# Altium schematic symbol library YL-LPC1788_V1.2_Library.SchLib: 65 symbols
Pins are listed as number, name and electrical type; pins without a type are passive.

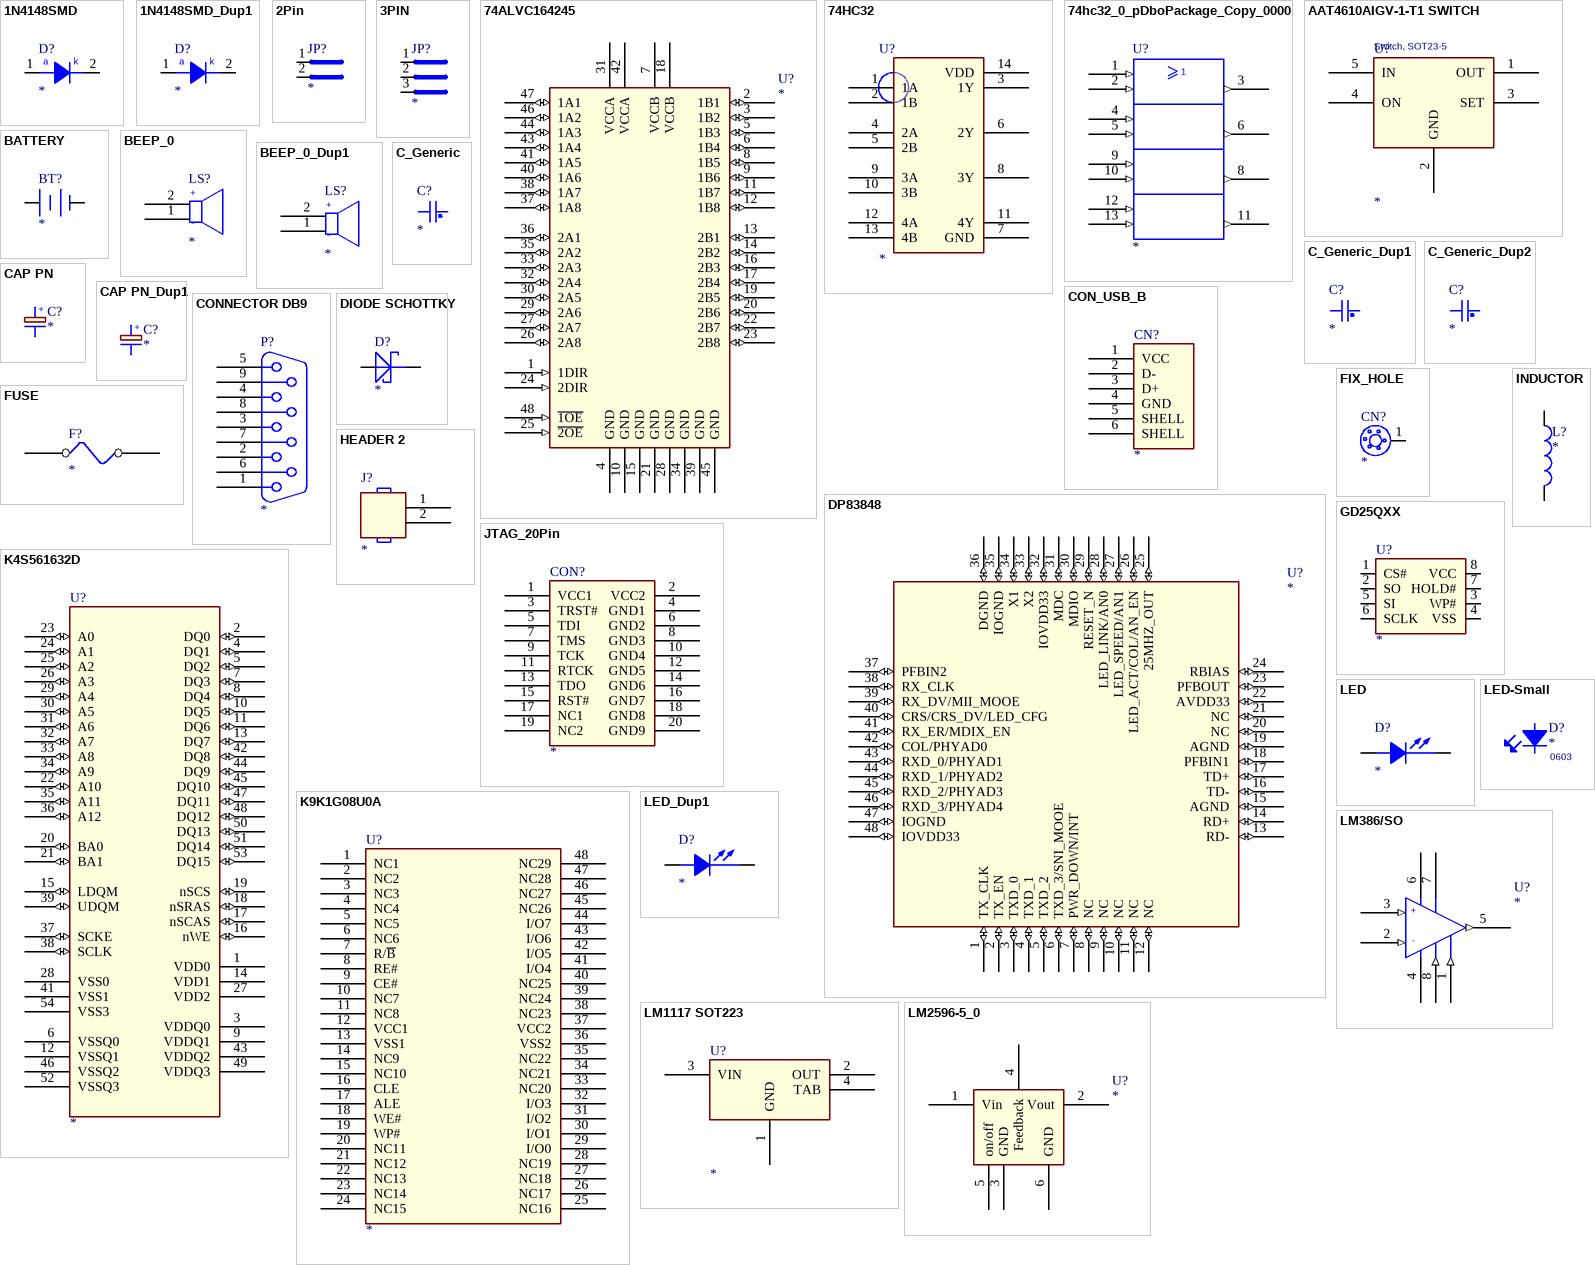
[diagram p0: symbols 1N4148SMD to LM2596-5_0]

## 1N4148SMD
designator D?
pins: 1 ANODE, 2 CATHODE
text: a; k

## 1N4148SMD_Dup1
designator D?
pins: 1 ANODE, 2 CATHODE
text: a; k

## 2Pin
designator JP?
pins: 1, 2

## 3PIN
designator JP?
pins: 1, 2, 3

## 74ALVC164245
designator U?
pins: 1 1DIR (in), 2 1B1 (io), 3 1B2 (io), 4 GND (power), 5 1B3 (io), 6 1B4 (io), 7 VCCB (power), 8 1B5 (io), 9 1B6 (io), 10 GND (power), 11 1B7 (io), 12 1B8 (io), 13 2B1 (io), 14 2B2 (io), 15 GND (power), 16 2B3 (io), 17 2B4 (io), 18 VCCB (power), 19 2B5 (io), 20 2B6 (io), 21 GND (power), 22 2B7 (io), 23 2B8 (io), 24 2DIR (in), 25 ~{2OE} (in), 26 2A8 (io), 27 2A7 (io), 28 GND (power), 29 2A6 (io), 30 2A5 (io), 31 VCCA (power), 32 2A4 (io), 33 2A3 (io), 34 GND (power), 35 2A2 (io), 36 2A1 (io), 37 1A8 (io), 38 1A7 (io), 39 GND (power), 40 1A6 (io), 41 1A5 (io), 42 VCCA (power), 43 1A4 (io), 44 1A3 (io), 45 GND (power), 46 1A2 (io), 47 1A1 (io), 48 ~{1OE} (in)

## 74HC32
designator U?
pins: 1 1A, 2 1B, 3 1Y, 4 2A, 5 2B, 6 2Y, 7 GND, 8 3Y, 9 3A, 10 3B, 11 4Y, 12 4A, 13 4B, 14 VDD

## 74hc32_0_pDboPackage_Copy_0000
designator U?
pins: 1 1A (in), 2 1B (in), 3 1Y (out), 4 2A (in), 5 2B (in), 6 2Y (out), 7 GND (power) hidden to GND, 8 3Y (out), 9 3A (in), 10 3B (in), 11 4Y (out), 12 4A (in), 13 4B (in), 14 VCC (power) hidden to VCC

## AAT4610AIGV-1-T1 SWITCH
designator U?  Note: Switch, SOT23-5
pins: 1 OUT, 2 GND, 3 SET, 4 ON, 5 IN

## BATTERY
designator BT?
pins: 1 +, 2 -

## BEEP_0
designator LS?
pins: 1, 2
text: +; -

## BEEP_0_Dup1
designator LS?
pins: 1, 2
text: +; -

## C_Generic
designator C?
footprint CAP0805
pins: 1, 2

## C_Generic_Dup1
designator C?
footprint CAP0805
pins: 1, 2

## C_Generic_Dup2
designator C?
footprint CAP0805
pins: 1, 2

## CAP PN
designator C?
SDTSourceLibName: C:\WINDOWS\TEMP\SNDS.LIB
pins: 1, 2
text: +

## CAP PN_Dup1
designator C?
SDTSourceLibName: C:\WINDOWS\TEMP\SNDS.LIB
pins: 1, 2
text: +

## CON_USB_B
designator CN?
pins: 1 VCC, 2 D-, 3 D+, 4 GND, 5 SHELL, 6 SHELL

## CONNECTOR DB9
designator P?
pins: 1, 2, 3, 4, 5, 6, 7, 8, 9

## DIODE SCHOTTKY
designator D?
pins: 1, 2

## DP83848
designator U?
pins: 1 TX_CLK (io), 2 TX_EN (io), 3 TXD_0 (io), 4 TXD_1 (io), 5 TXD_2 (io), 6 TXD_3/SNI_MOOE (io), 7 PWR_DOWN/INT (io), 8 NC (io), 9 NC (io), 10 NC (io), 11 NC (io), 12 NC (io), 13 RD- (io), 14 RD+ (io), 15 AGND (io), 16 TD- (io), 17 TD+ (io), 18 PFBIN1 (io), 19 AGND (io), 20 NC (io), 21 NC (io), 22 AVDD33 (io), 23 PFBOUT (io), 24 RBIAS (io), 25 25MHZ_OUT (io), 26 LED_ACT/COL/AN_EN (io), 27 LED_SPEED/AN1 (io), 28 LED_LINK/AN0 (io), 29 RESET_N (io), 30 MDIO (io), 31 MDC (io), 32 IOVDD33 (io), 33 X2 (io), 34 X1 (io), 35 IOGND (io), 36 DGND (io), 37 PFBIN2 (io), 38 RX_CLK (io), 39 RX_DV/MII_MOOE (io), 40 CRS/CRS_DV/LED_CFG (io), 41 RX_ER/MDIX_EN (io), 42 COL/PHYAD0 (io), 43 RXD_0/PHYAD1 (io), 44 RXD_1/PHYAD2 (io), 45 RXD_2/PHYAD3 (io), 46 RXD_3/PHYAD4 (io), 47 IOGND (io), 48 IOVDD33 (io)

## FIX_HOLE
designator CN?
pins: 1

## FUSE
designator F?
pins: 1, 2

## GD25QXX
designator U?
footprint SOP
pins: 1 CS#, 2 SO, 3 WP#, 4 VSS, 5 SI, 6 SCLK, 7 HOLD#, 8 VCC

## HEADER 2
designator J?
pins: 1, 2

## INDUCTOR
designator L?
SDTSourceLibName: C:\WINDOWS\TEMP\SNDS.LIB
pins: 1, 2

## JTAG_20Pin
designator CON?
pins: 1 VCC1, 2 VCC2, 3 TRST#, 4 GND1, 5 TDI, 6 GND2, 7 TMS, 8 GND3, 9 TCK, 10 GND4, 11 RTCK, 12 GND5, 13 TDO, 14 GND6, 15 RST#, 16 GND7, 17 NC1, 18 GND8, 19 NC2, 20 GND9

## K4S561632D
designator U?
pins: 1 VDD0, 2 DQ0 (io), 3 VDDQ0, 4 DQ1 (io), 5 DQ2 (io), 6 VSSQ0, 7 DQ3 (io), 8 DQ4 (io), 9 VDDQ1, 10 DQ5 (io), 11 DQ6 (io), 12 VSSQ1, 13 DQ7 (io), 14 VDD1, 15 LDQM (io), 16 nWE (io), 17 nSCAS (io), 18 nSRAS (io), 19 nSCS (io), 20 BA0 (io), 21 BA1 (io), 22 A10 (io), 23 A0 (io), 24 A1 (io), 25 A2 (io), 26 A3 (io), 27 VDD2, 28 VSS0, 29 A4 (io), 30 A5 (io), 31 A6 (io), 32 A7 (io), 33 A8 (io), 34 A9 (io), 35 A11 (io), 36 A12 (io), 37 SCKE (io), 38 SCLK (io), 39 UDQM (io), 41 VSS1, 42 DQ8 (io), 43 VDDQ2, 44 DQ9 (io), 45 DQ10 (io), 46 VSSQ2, 47 DQ11 (io), 48 DQ12 (io), 49 VDDQ3, 50 DQ13 (io), 51 DQ14 (io), 52 VSSQ3, 53 DQ15 (io), 54 VSS3

## K9K1G08U0A
designator U?
footprint TSOP1
pins: 1 NC1, 2 NC2, 3 NC3, 4 NC4, 5 NC5, 6 NC6, 7 R/~{B}, 8 RE#, 9 CE#, 10 NC7, 11 NC8, 12 VCC1, 13 VSS1, 14 NC9, 15 NC10, 16 CLE, 17 ALE, 18 WE#, 19 WP#, 20 NC11, 21 NC12, 22 NC13, 23 NC14, 24 NC15, 25 NC16, 26 NC17, 27 NC18, 28 NC19, 29 I/O0, 30 I/O1, 31 I/O2, 32 I/O3, 33 NC20, 34 NC21, 35 NC22, 36 VSS2, 37 VCC2, 38 NC23, 39 NC24, 40 NC25, 41 I/O4, 42 I/O5, 43 I/O6, 44 I/O7, 45 NC26, 46 NC27, 47 NC28, 48 NC29

## LED
designator D?
pins: 1 ANODE, 2 CATHODE

## LED-Small
designator D?  Note: 0603
pins: 1 A, 2 K

## LED_Dup1
designator D?
pins: 1 ANODE, 2 CATHODE

## LM386/SO
designator U?
pins: 1 GAIN (in), 2 IN- (in), 3 IN+ (in), 4 GND (power), 5 OUT (out), 6 V+ (power), 7 BYPASS, 8 GAIN (in)
text: +; -

## LM1117 SOT223
designator U?
footprint XP-SOT223-3
pins: 1 GND, 2 OUT, 3 VIN, 4 TAB

## LM2596-5_0
designator U?
pins: 1 Vin, 2 Vout, 3 GND, 4 Feedback, 5 on/off, 6 GND

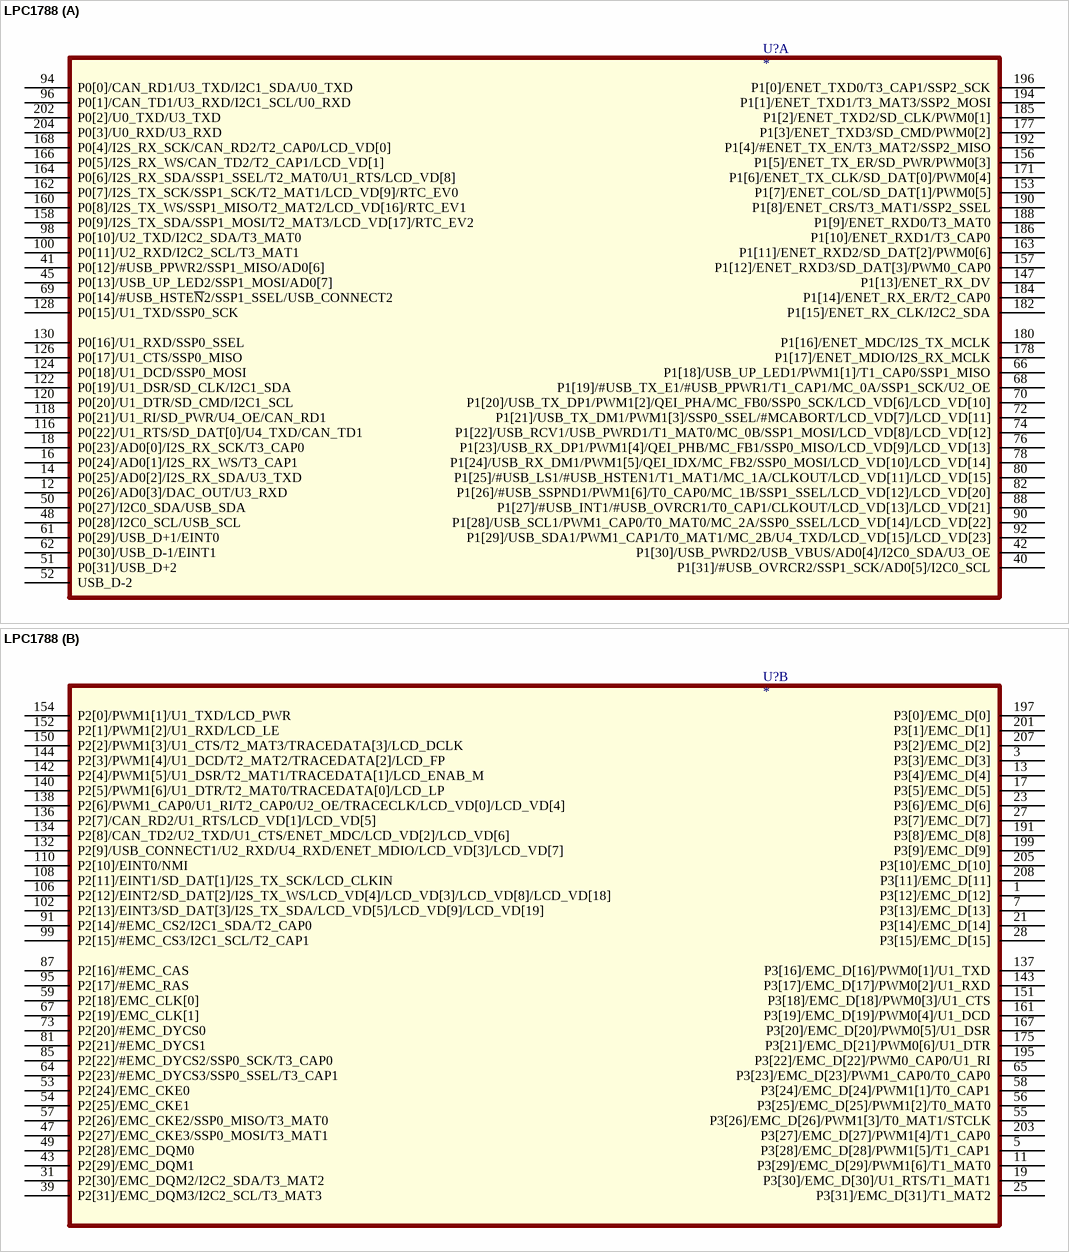
[diagram p1: symbol LPC1788]

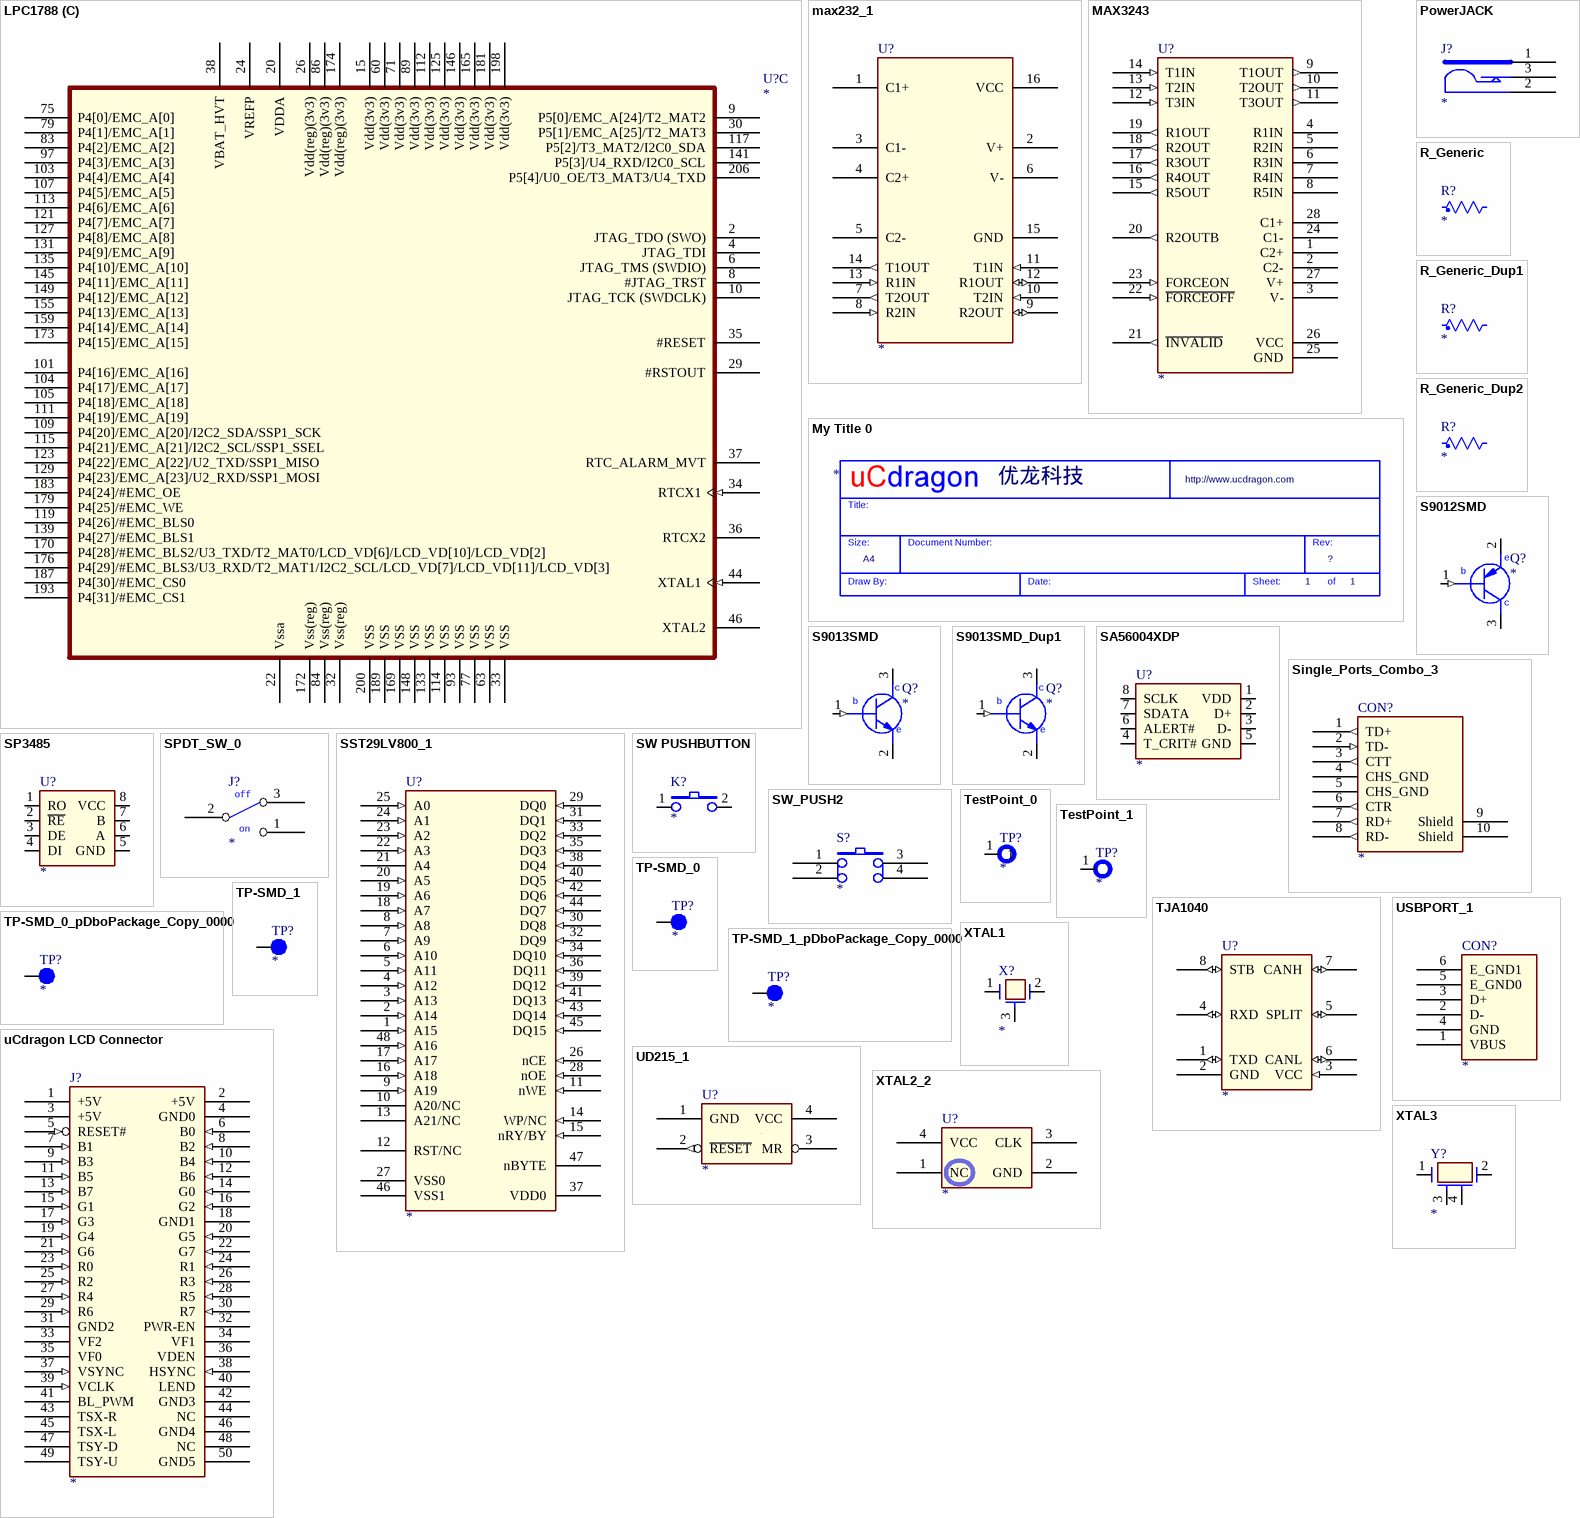
[diagram p2: symbols LPC1788 to XTAL3]

## LPC1788
designator U?
part A pins: 12 P0[26]/AD0[3]/DAC_OUT/U3_RXD, 14 P0[25]/AD0[2]/I2S_RX_SDA/U3_TXD, 16 P0[24]/AD0[1]/I2S_RX_WS/T3_CAP1, 18 P0[23]/AD0[0]/I2S_RX_SCK/T3_CAP0, 40 P1[31]/#USB_OVRCR2/SSP1_SCK/AD0[5]/I2C0_SCL, 41 P0[12]/#USB_PPWR2/SSP1_MISO/AD0[6], 42 P1[30]/USB_PWRD2/USB_VBUS/AD0[4]/I2C0_SDA/U3_OE, 45 P0[13]/USB_UP_LED2/SSP1_MOSI/AD0[7], 48 P0[28]/I2C0_SCL/USB_SCL, 50 P0[27]/I2C0_SDA/USB_SDA, 51 P0[31]/USB_D+2, 52 USB_D-2, 61 P0[29]/USB_D+1/EINT0, 62 P0[30]/USB_D-1/EINT1, 66 P1[18]/USB_UP_LED1/PWM1[1]/T1_CAP0/SSP1_MISO, 68 P1[19]/#USB_TX_E1/#USB_PPWR1/T1_CAP1/MC_0A/SSP1_SCK/U2_OE, 69 P0[14]/#USB_HSTE~{N}2/SSP1_SSEL/USB_CONNECT2, 70 P1[20]/USB_TX_DP1/PWM1[2]/QEI_PHA/MC_FB0/SSP0_SCK/LCD_VD[6]/LCD_VD[10], 72 P1[21]/USB_TX_DM1/PWM1[3]/SSP0_SSEL/#MCABORT/LCD_VD[7]/LCD_VD[11], 74 P1[22]/USB_RCV1/USB_PWRD1/T1_MAT0/MC_0B/SSP1_MOSI/LCD_VD[8]/LCD_VD[12], 76 P1[23]/USB_RX_DP1/PWM1[4]/QEI_PHB/MC_FB1/SSP0_MISO/LCD_VD[9]/LCD_VD[13], 78 P1[24]/USB_RX_DM1/PWM1[5]/QEI_IDX/MC_FB2/SSP0_MOSI/LCD_VD[10]/LCD_VD[14], 80 P1[25]/#USB_LS1/#USB_HSTEN1/T1_MAT1/MC_1A/CLKOUT/LCD_VD[11]/LCD_VD[15], 82 P1[26]/#USB_SSPND1/PWM1[6]/T0_CAP0/MC_1B/SSP1_SSEL/LCD_VD[12]/LCD_VD[20], 88 P1[27]/#USB_INT1/#USB_OVRCR1/T0_CAP1/CLKOUT/LCD_VD[13]/LCD_VD[21], 90 P1[28]/USB_SCL1/PWM1_CAP0/T0_MAT0/MC_2A/SSP0_SSEL/LCD_VD[14]/LCD_VD[22], 92 P1[29]/USB_SDA1/PWM1_CAP1/T0_MAT1/MC_2B/U4_TXD/LCD_VD[15]/LCD_VD[23], 94 P0[0]/CAN_RD1/U3_TXD/I2C1_SDA/U0_TXD, 96 P0[1]/CAN_TD1/U3_RXD/I2C1_SCL/U0_RXD, 98 P0[10]/U2_TXD/I2C2_SDA/T3_MAT0, 100 P0[11]/U2_RXD/I2C2_SCL/T3_MAT1, 116 P0[22]/U1_RTS/SD_DAT[0]/U4_TXD/CAN_TD1, 118 P0[21]/U1_RI/SD_PWR/U4_OE/CAN_RD1, 120 P0[20]/U1_DTR/SD_CMD/I2C1_SCL, 122 P0[19]/U1_DSR/SD_CLK/I2C1_SDA, 124 P0[18]/U1_DCD/SSP0_MOSI, 126 P0[17]/U1_CTS/SSP0_MISO, 128 P0[15]/U1_TXD/SSP0_SCK, 130 P0[16]/U1_RXD/SSP0_SSEL, 147 P1[13]/ENET_RX_DV, 153 P1[7]/ENET_COL/SD_DAT[1]/PWM0[5], 156 P1[5]/ENET_TX_ER/SD_PWR/PWM0[3], 157 P1[12]/ENET_RXD3/SD_DAT[3]/PWM0_CAP0, 158 P0[9]/I2S_TX_SDA/SSP1_MOSI/T2_MAT3/LCD_VD[17]/RTC_EV2, 160 P0[8]/I2S_TX_WS/SSP1_MISO/T2_MAT2/LCD_VD[16]/RTC_EV1, 162 P0[7]/I2S_TX_SCK/SSP1_SCK/T2_MAT1/LCD_VD[9]/RTC_EV0, 163 P1[11]/ENET_RXD2/SD_DAT[2]/PWM0[6], 164 P0[6]/I2S_RX_SDA/SSP1_SSEL/T2_MAT0/U1_RTS/LCD_VD[8], 166 P0[5]/I2S_RX_WS/CAN_TD2/T2_CAP1/LCD_VD[1], 168 P0[4]/I2S_RX_SCK/CAN_RD2/T2_CAP0/LCD_VD[0], 171 P1[6]/ENET_TX_CLK/SD_DAT[0]/PWM0[4], 177 P1[3]/ENET_TXD3/SD_CMD/PWM0[2], 178 P1[17]/ENET_MDIO/I2S_RX_MCLK, 180 P1[16]/ENET_MDC/I2S_TX_MCLK, 182 P1[15]/ENET_RX_CLK/I2C2_SDA, 184 P1[14]/ENET_RX_ER/T2_CAP0, 185 P1[2]/ENET_TXD2/SD_CLK/PWM0[1], 186 P1[10]/ENET_RXD1/T3_CAP0, 188 P1[9]/ENET_RXD0/T3_MAT0, 190 P1[8]/ENET_CRS/T3_MAT1/SSP2_SSEL, 192 P1[4]/#ENET_TX_EN/T3_MAT2/SSP2_MISO, 194 P1[1]/ENET_TXD1/T3_MAT3/SSP2_MOSI, 196 P1[0]/ENET_TXD0/T3_CAP1/SSP2_SCK, 202 P0[2]/U0_TXD/U3_TXD, 204 P0[3]/U0_RXD/U3_RXD
part B pins: 1 P3[12]/EMC_D[12], 3 P3[3]/EMC_D[3], 5 P3[28]/EMC_D[28]/PWM1[5]/T1_CAP1, 7 P3[13]/EMC_D[13], 11 P3[29]/EMC_D[29]/PWM1[6]/T1_MAT0, 13 P3[4]/EMC_D[4], 17 P3[5]/EMC_D[5], 19 P3[30]/EMC_D[30]/U1_RTS/T1_MAT1, 21 P3[14]/EMC_D[14], 23 P3[6]/EMC_D[6], 25 P3[31]/EMC_D[31]/T1_MAT2, 27 P3[7]/EMC_D[7], 28 P3[15]/EMC_D[15], 31 P2[30]/EMC_DQM2/I2C2_SDA/T3_MAT2, 39 P2[31]/EMC_DQM3/I2C2_SCL/T3_MAT3, 43 P2[29]/EMC_DQM1, 47 P2[27]/EMC_CKE3/SSP0_MOSI/T3_MAT1, 49 P2[28]/EMC_DQM0, 53 P2[24]/EMC_CKE0, 54 P2[25]/EMC_CKE1, 55 P3[26]/EMC_D[26]/PWM1[3]/T0_MAT1/STCLK, 56 P3[25]/EMC_D[25]/PWM1[2]/T0_MAT0, 57 P2[26]/EMC_CKE2/SSP0_MISO/T3_MAT0, 58 P3[24]/EMC_D[24]/PWM1[1]/T0_CAP1, 59 P2[18]/EMC_CLK[0], 64 P2[23]/#EMC_DYCS3/SSP0_SSEL/T3_CAP1, 65 P3[23]/EMC_D[23]/PWM1_CAP0/T0_CAP0, 67 P2[19]/EMC_CLK[1], 73 P2[20]/#EMC_DYCS0, 81 P2[21]/#EMC_DYCS1, 85 P2[22]/#EMC_DYCS2/SSP0_SCK/T3_CAP0, 87 P2[16]/#EMC_CAS, 91 P2[14]/#EMC_CS2/I2C1_SDA/T2_CAP0, 95 P2[17]/#EMC_RAS, 99 P2[15]/#EMC_CS3/I2C1_SCL/T2_CAP1, 102 P2[13]/EINT3/SD_DAT[3]/I2S_TX_SDA/LCD_VD[5]/LCD_VD[9]/LCD_VD[19], 106 P2[12]/EINT2/SD_DAT[2]/I2S_TX_WS/LCD_VD[4]/LCD_VD[3]/LCD_VD[8]/LCD_VD[18], 108 P2[11]/EINT1/SD_DAT[1]/I2S_TX_SCK/LCD_CLKIN, 110 P2[10]/EINT0/NMI, 132 P2[9]/USB_CONNECT1/U2_RXD/U4_RXD/ENET_MDIO/LCD_VD[3]/LCD_VD[7], 134 P2[8]/CAN_TD2/U2_TXD/U1_CTS/ENET_MDC/LCD_VD[2]/LCD_VD[6], 136 P2[7]/CAN_RD2/U1_RTS/LCD_VD[1]/LCD_VD[5], 137 P3[16]/EMC_D[16]/PWM0[1]/U1_TXD, 138 P2[6]/PWM1_CAP0/U1_RI/T2_CAP0/U2_OE/TRACECLK/LCD_VD[0]/LCD_VD[4], 140 P2[5]/PWM1[6]/U1_DTR/T2_MAT0/TRACEDATA[0]/LCD_LP, 142 P2[4]/PWM1[5]/U1_DSR/T2_MAT1/TRACEDATA[1]/LCD_ENAB_M, 143 P3[17]/EMC_D[17]/PWM0[2]/U1_RXD, 144 P2[3]/PWM1[4]/U1_DCD/T2_MAT2/TRACEDATA[2]/LCD_FP, 150 P2[2]/PWM1[3]/U1_CTS/T2_MAT3/TRACEDATA[3]/LCD_DCLK, 151 P3[18]/EMC_D[18]/PWM0[3]/U1_CTS, 152 P2[1]/PWM1[2]/U1_RXD/LCD_LE, 154 P2[0]/PWM1[1]/U1_TXD/LCD_PWR, 161 P3[19]/EMC_D[19]/PWM0[4]/U1_DCD, 167 P3[20]/EMC_D[20]/PWM0[5]/U1_DSR, 175 P3[21]/EMC_D[21]/PWM0[6]/U1_DTR, 191 P3[8]/EMC_D[8], 195 P3[22]/EMC_D[22]/PWM0_CAP0/U1_RI, 197 P3[0]/EMC_D[0], 199 P3[9]/EMC_D[9], 201 P3[1]/EMC_D[1], 203 P3[27]/EMC_D[27]/PWM1[4]/T1_CAP0, 205 P3[10]/EMC_D[10], 207 P3[2]/EMC_D[2], 208 P3[11]/EMC_D[11]
part C pins: 2 JTAG_TDO (SWO), 4 JTAG_TDI, 6 JTAG_TMS (SWDIO), 8 #JTAG_TRST, 9 P5[0]/EMC_A[24]/T2_MAT2, 10 JTAG_TCK (SWDCLK), 15 Vdd(3v3), 20 VDDA, 22 Vssa, 24 VREFP, 26 Vdd(reg)(3v3), 29 #RSTOUT, 30 P5[1]/EMC_A[25]/T2_MAT3, 32 Vss(reg), 33 VSS, 34 RTCX1 (in), 35 #RESET, 36 RTCX2, 37 RTC_ALARM_MVT, 38 VBAT_HVT, 44 XTAL1 (in), 46 XTAL2, 60 Vdd(3v3), 63 VSS, 71 Vdd(3v3), 75 P4[0]/EMC_A[0], 77 VSS, 79 P4[1]/EMC_A[1], 83 P4[2]/EMC_A[2], 84 Vss(reg), 86 Vdd(reg)(3v3), 89 Vdd(3v3), 93 VSS, 97 P4[3]/EMC_A[3], 101 P4[16]/EMC_A[16], 103 P4[4]/EMC_A[4], 104 P4[17]/EMC_A[17], 105 P4[18]/EMC_A[18], 107 P4[5]/EMC_A[5], 109 P4[20]/EMC_A[20]/I2C2_SDA/SSP1_SCK, 111 P4[19]/EMC_A[19], 112 Vdd(3v3), 113 P4[6]/EMC_A[6], 114 VSS, 115 P4[21]/EMC_A[21]/I2C2_SCL/SSP1_SSEL, 117 P5[2]/T3_MAT2/I2C0_SDA, 119 P4[26]/#EMC_BLS0, 121 P4[7]/EMC_A[7], 123 P4[22]/EMC_A[22]/U2_TXD/SSP1_MISO, 125 Vdd(3v3), 127 P4[8]/EMC_A[8], 129 P4[23]/EMC_A[23]/U2_RXD/SSP1_MOSI, 131 P4[9]/EMC_A[9], 133 VSS, 135 P4[10]/EMC_A[10], 139 P4[27]/#EMC_BLS1, 141 P5[3]/U4_RXD/I2C0_SCL, 145 P4[11]/EMC_A[11], 146 Vdd(3v3), 148 VSS, 149 P4[12]/EMC_A[12], 155 P4[13]/EMC_A[13], 159 P4[14]/EMC_A[14], 165 Vdd(3v3), 169 VSS, 170 P4[28]/#EMC_BLS2/U3_TXD/T2_MAT0/LCD_VD[6]/LCD_VD[10]/LCD_VD[2], 172 Vss(reg), 173 P4[15]/EMC_A[15], 174 Vdd(reg)(3v3), 176 P4[29]/#EMC_BLS3/U3_RXD/T2_MAT1/I2C2_SCL/LCD_VD[7]/LCD_VD[11]/LCD_VD[3], 179 P4[25]/#EMC_WE, 181 Vdd(3v3), 183 P4[24]/#EMC_OE, 187 P4[30]/#EMC_CS0, 189 VSS, 193 P4[31]/#EMC_CS1, 198 Vdd(3v3), 200 VSS, 206 P5[4]/U0_OE/T3_MAT3/U4_TXD

## max232_1
designator U?
pins: 1 C1+, 2 V+, 3 C1-, 4 C2+, 5 C2-, 6 V-, 7 T2OUT (out), 8 R2IN (in), 9 R2OUT (io), 10 T2IN (in), 11 T1IN (in), 12 R1OUT (io), 13 R1IN (in), 14 T1OUT (out), 15 GND (power), 16 VCC (power)

## MAX3243
designator U?
pins: 1 C2+, 2 C2-, 3 V-, 4 R1IN, 5 R2IN, 6 R3IN, 7 R4IN, 8 R5IN, 9 T1OUT (out), 10 T2OUT (out), 11 T3OUT (out), 12 T3IN (in), 13 T2IN (in), 14 T1IN (in), 15 R5OUT (out), 16 R4OUT (out), 17 R3OUT (out), 18 R2OUT (out), 19 R1OUT (out), 20 R2OUTB (out), 21 ~{INVALID} (out), 22 ~{FORCEOFF} (in), 23 FORCEON (in), 24 C1-, 25 GND, 26 VCC, 27 V+, 28 C1+

## My Title 0
designator *  Page Count: 1  Page Size: A4  Company: 优龙科技  (graphical)
Page Number: 1; RevCode: ?; Page Create Date: May 29, 2006; WebSite: http://www.ucdragon.com
text: Title:; Size:; Document Number:; Rev:; Draw By:; Date:; Sheet:; of

## PowerJACK
designator J?
pins: 1, 2, 3

## R_Generic
designator R?
pins: 1, 2

## R_Generic_Dup1
designator R?
pins: 1, 2

## R_Generic_Dup2
designator R?
pins: 1, 2

## S9012SMD
designator Q?
pins: 1 B (in), 2 e, 3 c
text: b

## S9013SMD
designator Q?
pins: 1 B (in), 2 E, 3 C
text: c; b; e

## S9013SMD_Dup1
designator Q?
pins: 1 B (in), 2 E, 3 C
text: c; b; e

## SA56004XDP
designator U?
footprint TSSOP8
pins: 1 VDD, 2 D+, 3 D-, 4 T_CRIT#, 5 GND, 6 ALERT#, 7 SDATA, 8 SCLK

## Single_Ports_Combo_3
designator CON?
pins: 1 TD+ (out), 2 TD- (in), 3 CTT (out), 4 CHS_GND (power), 5 CHS_GND (power), 6 CTR (out), 7 RD+ (out), 8 RD- (out), 9 Shield (power), 10 Shield (power)

## SP3485
designator U?
pins: 1 RO, 2 ~{RE}, 3 DE, 4 DI, 5 GND, 6 A, 7 B, 8 VCC

## SPDT_SW_0
designator J?
pins: 1 ON, 2 COMM, 3 OFF
text: off; on

## SST29LV800_1
designator U?
pins: 1 A15 (in), 2 A14 (in), 3 A13 (in), 4 A12 (in), 5 A11 (in), 6 A10 (in), 7 A9 (in), 8 A8 (in), 9 A19 (in), 10 A20/NC, 11 nWE (in), 12 RST/NC, 13 A21/NC, 14 WP/NC (in), 15 nRY/BY (in), 16 A18 (in), 17 A17 (in), 18 A7 (in), 19 A6 (in), 20 A5 (in), 21 A4, 22 A3 (in), 23 A2 (in), 24 A1 (in), 25 A0 (in), 26 nCE (in), 27 VSS0 (power), 28 nOE (in), 29 DQ0 (in), 30 DQ8 (in), 31 DQ1 (in), 32 DQ9 (in), 33 DQ2 (in), 34 DQ10 (in), 35 DQ3 (in), 36 DQ11 (in), 37 VDD0 (power), 38 DQ4 (in), 39 DQ12 (in), 40 DQ5 (in), 41 DQ13 (in), 42 DQ6 (in), 43 DQ14 (in), 44 DQ7 (in), 45 DQ15 (in), 46 VSS1 (power), 47 nBYTE, 48 A16 (in)

## SW PUSHBUTTON
designator K?
pins: 1, 2

## SW_PUSH2
designator S?
SDTSourceLibName: C:\WIND95\TEMP\6200.LIB
pins: 1, 2, 3 2, 4 6

## TestPoint_0
designator TP?
pins: 1

## TestPoint_1
designator TP?
pins: 1

## TJA1040
designator U?
pins: 1 TXD (io), 2 GND, 3 VCC (in), 4 RXD (io), 5 SPLIT (io), 6 CANL (io), 7 CANH (io), 8 STB (io)

## TP-SMD_0
designator TP?
pins: 1

## TP-SMD_0_pDboPackage_Copy_0000
designator TP?
pins: 1

## TP-SMD_1
designator TP?
pins: 1

## TP-SMD_1_pDboPackage_Copy_0000
designator TP?
pins: 1

## uCdragon LCD Connector
designator J?
pins: 1 +5V, 2 +5V, 3 +5V, 4 GND0, 5 RESET# (in), 6 B0 (in), 7 B1 (in), 8 B2 (in), 9 B3 (in), 10 B4 (in), 11 B5 (in), 12 B6 (in), 13 B7 (in), 14 G0 (in), 15 G1 (in), 16 G2 (in), 17 G3 (in), 18 GND1, 19 G4 (in), 20 G5 (in), 21 G6 (in), 22 G7 (in), 23 R0 (in), 24 R1 (in), 25 R2 (in), 26 R3 (in), 27 R4 (in), 28 R5 (in), 29 R6 (in), 30 R7 (in), 31 GND2, 32 PWR-EN, 33 VF2, 34 VF1, 35 VF0, 36 VDEN, 37 VSYNC (in), 38 HSYNC (in), 39 VCLK (in), 40 LEND, 41 BL_PWM, 42 GND3, 43 TSX-R, 44 NC, 45 TSX-L, 46 GND4, 47 TSY-D, 48 NC, 49 TSY-U, 50 GND5

## UD215_1
designator U?
pins: 1 GND, 2 ~{RESET} (out), 3 MR, 4 VCC

## USBPORT_1
designator CON?
pins: 1 VBUS, 2 D-, 3 D+, 4 GND, 5 E_GND0, 6 E_GND1

## XTAL1
designator X?
pins: 1, 2, 3 GND

## XTAL2_2
designator U?
pins: 1 NC, 2 GND, 3 CLK, 4 VCC

## XTAL3
designator Y?
pins: 1, 2, 3 GND, 4 GND